# EAGLE library part 87898-0826 (library ToneGenerator_Parts)
Headers & Wire Housings 2.54mm SRSW SMT Hd r W/O Cap 2.5SnLF 8P Source: Datasheet <https://componentsearchengine.com/Datasheets/1/87898-0826.pdf>
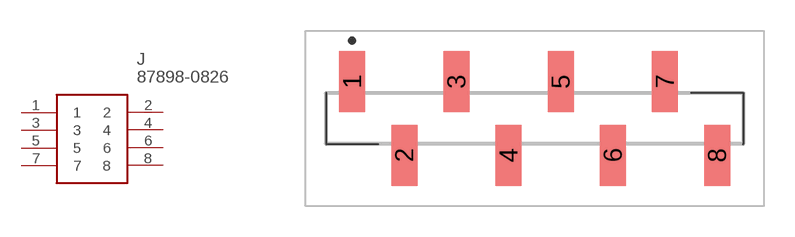
[diagram p2: symbol with the pads of 878980826; footprint 878980826]

Designator prefix J

## 87898-0826 (DESCRIPTION: Headers & Wire Housings 2.54mm SRSW SMT Hd r W/O Cap 2.5SnLF 8P; HEIGHT: 10.81mm; MANUFACTURER_NAME: Molex; MANUFACTURER_PART_NUMBER: 87898-0826; MOUSER_PART_NUMBER: 538-87898-0826)  [878980826]
1  1
2  2
3  3
4  4
5  5
6  6
7  7
8  8

## Footprint 878980826 (pad centres in mm)
87898-0826-3
smd 1.27 x 2.96: 1 -8.89,1.8; 2 -6.35,-1.8; 3 -3.81,1.8; 4 -1.27,-1.8; 5 1.27,1.8; 6 3.81,-1.8; 7 6.35,1.8; 8 8.89,-1.8